# Altium footprint library ZLG7290.PcbLib: 1 footprints
Each footprint in its own frame and in the unit in brackets; x right, y up, seen from the top. Pads: shape width x height; smd on the part's side, far side on the other; paste and mask are expansions set on the pad; w line width, h text height; cw(c..) or ccw(c..) is an arc to the next point about the centre after c.
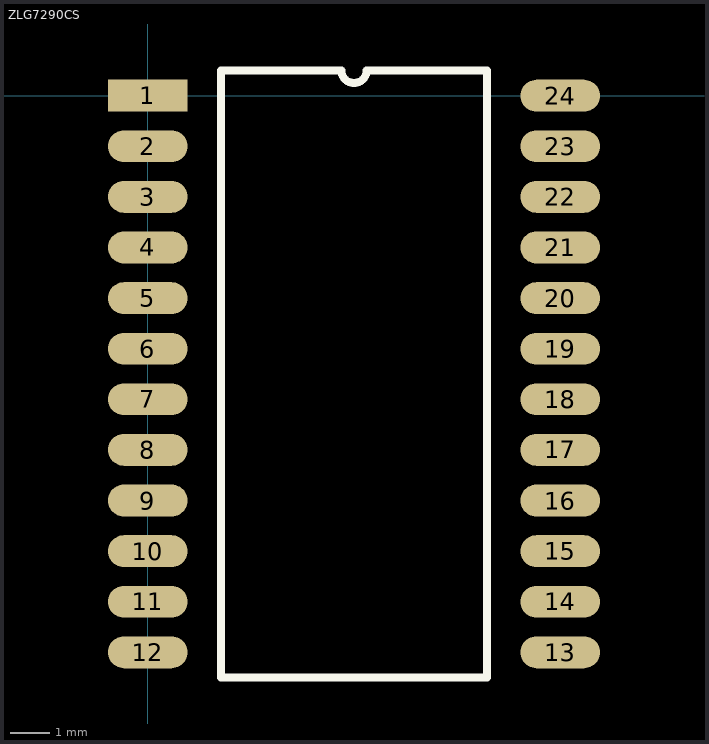
[diagram p0: the footprint, top view; thin cyan lines are the x and y axes]

## ZLG7290CS [mm]
pads (24):
  rect 2x0.8 smd: 1(0,0)
  oval 2x0.8 smd: 2(0,-1.27) 3(0,-2.54) 4(0,-3.81) 5(0,-5.08) 6(0,-6.35) 7(0,-7.62) 8(0,-8.89) 9(0,-10.16) 10(0,-11.43) 11(0,-12.7) 12(0,-13.97) 13(10.35,-13.97) 14(10.35,-12.7) 15(10.35,-11.43) 16(10.35,-10.16) 17(10.35,-8.89) 18(10.35,-7.62) 19(10.35,-6.35) 20(10.35,-5.08) 21(10.35,-3.81) 22(10.35,-2.54) 23(10.35,-1.27) 24(10.35,0)
Top Overlay:
  lines w0.2: 1.835,-14.605 8.515,-14.605 8.515,0.635 5.492,0.635 cw(c5.175,0.635) 4.857,0.635 1.835,0.635 1.835,-14.605